# Altium integrated library Altium_IC.IntLib: 58 symbols (part 1 of 2)
Pins are listed as number, name and electrical type; pins without a type are passive.

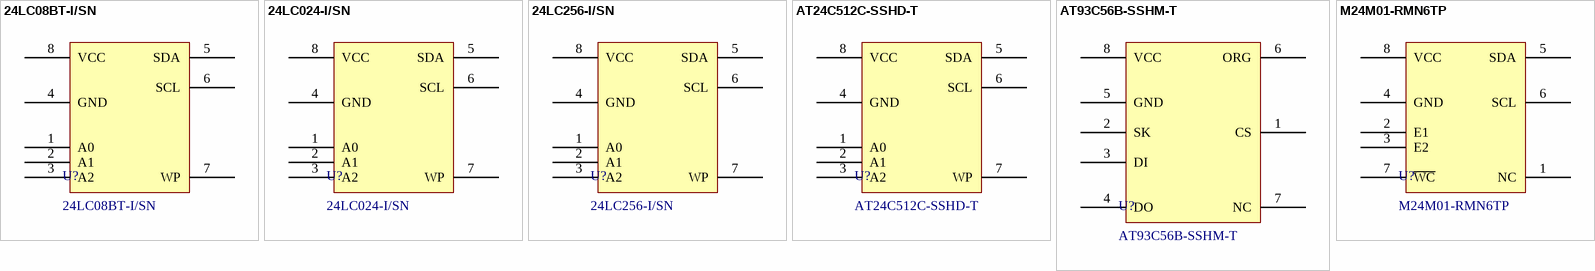
[diagram p0: symbols 24LC08BT-I/SN to M24M01-RMN6TP]

## 24LC08BT-I/SN
designator U?
8 Kbit Electrically Erasable PROM; Manufacturer: Microchip; Interface Type: 2-Wire, I2C; Maximum Clock Frequency: 400 kHz; Memory Size: 8 kbit; Supply Voltage - Max: 5.5 V; Supply Voltage - Min: 2.5 V; Supplier 1 URL: https://www.mouser.vn/ProductDetail/Microchip-Technology/24LC08BT-I-SN?qs=XNV0BZVlaZHdLDEb4lQBIw%3D%3D; Supplier 2 URL: https://www.digikey.com/en/products/detail/microchip-technology/24lc08bt-i-sn/318673; Supplier 3 URL: https://www.thegioiic.com/24lc08b-i-sn-ic-eeprom-8kbit-8-soic; Value: 24LC08BT-I/SN; Manufacturer Part Number: 24LC08BT-I/SN; Supplier 1: Mouser; Supplier 1 Part Number: 579-24LC08BT-I/SN; Supplier 2: Digi-Key; Supplier 2 Part Number: 24LC08BT-I/SNTR-ND; Supplier 3: thegioiic; Supplier 3 Part Number: N/A; Mount: SMD/SMT; Operating Temperature Max: + 85 C; Operating Temperature Min: - 40 C; Package / Case: SOIC-8; Packaging: Tape and Reel; ComponentLink1Description: Datasheet; ComponentLink1URL: https://www.mouser.vn/datasheet/2/268/24AA08_24LC08B_24FC08_8K_I2C_Serial_EEPROM_2000171-2577012.pdf; LCSC Part #: N/A
footprint 24LCxxx-I/SN (SOIC, 8-Leads, Body 4.90x3.90mm, Pitch 1.27mm, IPC Medium Density)
pins: 1 A0, 2 A1, 3 A2, 4 GND, 5 SDA, 6 SCL, 7 WP, 8 VCC

## 24LC024-I/SN
designator U?
2 Kbit Electrically Erasable PROM; Manufacturer: Microchip; Interface Type: 2-Wire, I2C; Maximum Clock Frequency: 400 kHz; Memory Size: 2 kbit; Supply Voltage - Max: 5.5 V; Supply Voltage - Min: 2.5 V; Supplier 1 URL: https://www.mouser.vn/ProductDetail/Microchip-Technology/24LC024-I-SN?qs=qEm8%2FJMJY4oS3QxbKWHseA%3D%3D; Supplier 2 URL: https://www.digikey.com/en/products/detail/microchip-technology/24lc024-i-sn/318656; Supplier 3 URL: https://www.thegioiic.com/24lc024-i-sn-ic-eeprom-2kbit-8-soic; Value: 24LC024-I/SN; Manufacturer Part Number: 24LC024-I/SN; Supplier 1: Mouser; Supplier 1 Part Number: 579-24LC024-I/SN; Supplier 2: Digi-Key; Supplier 2 Part Number: 24LC024-I/SN-ND; Supplier 3: thegioiic; Supplier 3 Part Number: N/A; Mount: SMD/SMT; Operating Temperature Max: + 85 C; Operating Temperature Min: - 40 C; Package / Case: SOIC-8; Packaging: Tape and Reel; ComponentLink1Description: Datasheet; ComponentLink1URL: https://www.mouser.vn/datasheet/2/268/24AA024_24LC024_24AA025_24LC025_2_Kbit_I2C_Serial_-3005761.pdf; LCSC Part #: N/A
footprint 24LCxxx-I/SN (SOIC, 8-Leads, Body 4.90x3.90mm, Pitch 1.27mm, IPC Medium Density)
pins: 1 A0, 2 A1, 3 A2, 4 GND, 5 SDA, 6 SCL, 7 WP, 8 VCC

## 24LC256-I/SN
designator U?
256 Kbit Electrically Erasable PROM; Manufacturer: Microchip; Interface Type: 2-Wire, I2C; Maximum Clock Frequency: 400 kHz; Supply Voltage - Max: 5.5 V; Supply Voltage - Min: 2.5 V; Memory Size: 256 kbit; Supplier 1 URL: https://www.mouser.vn/ProductDetail/Microchip-Technology/24LC256-I-SN?qs=XNV0BZVlaZFRtjzs8l%252BLRw%3D%3D; Supplier 2 URL: https://www.digikey.com/en/products/detail/microchip-technology/24lc256-i-sn/440169; Supplier 3 URL: https://www.thegioiic.com/24lc256-i-sn-ic-eeprom-256kbit-8-soic; Value: 24LC256-I/SN; Manufacturer Part Number: 24LC256-I/SN; Supplier 1: Mouser; Supplier 1 Part Number: 579-24LC256-I/SN; Supplier 2: Digi-Key; Supplier 2 Part Number: 24LC256-I/SN-ND; Supplier 3: thegioiic; Supplier 3 Part Number: N/A; Mount: SMD/SMT; Operating Temperature Max: + 85 C; Operating Temperature Min: - 40 C; Package / Case: SOIC-8; Packaging: Tape and Reel; ComponentLink1Description: Datasheet; ComponentLink1URL: https://www.mouser.vn/datasheet/2/268/24AA256_24LC256_24FC256_256K_I2C_Serial_EEPROM_DS2-3005041.pdf; LCSC Part #: N/A
footprint 24LCxxx-I/SN (SOIC, 8-Leads, Body 4.90x3.90mm, Pitch 1.27mm, IPC Medium Density)
pins: 1 A0, 2 A1, 3 A2, 4 GND, 5 SDA, 6 SCL, 7 WP, 8 VCC

## AT24C512C-SSHD-T
designator U?
EEPROM SERIAL EEPROM 512K (64K X 8) 2WIRE 2.5V; Manufacturer: Microchip; Interface Type: 2-Wire, I2C; Maximum Clock Frequency: 1 MHz; Memory Size: 512 kbit; Supply Voltage - Max: 5.5 V; Supplier 1 URL: https://www.mouser.vn/ProductDetail/Microchip-Technology/AT24C512C-SSHD-T?qs=Oaf4mloV4cM7Q6xetGfOtg%3D%3D; Supplier 2 URL: https://www.digikey.com/en/products/detail/microchip-technology/at24c512c-sshd-t/3046245; Supplier 3 URL: https://www.thegioiic.com/at24c512c-sshd-t-ic-eeprom-512kbit-8-soic; Value: AT24C512C-SSHD-T; Manufacturer Part Number: AT24C512C-SSHD-T; Supplier 1: Mouser; Supplier 1 Part Number: 556-AT24C512C-SSHD-T; Supplier 2: Digi-Key; Supplier 2 Part Number: AT24C512C-SSHD-TTR-ND; Supplier 3: thegioiic; Supplier 3 Part Number: AT24C512C-SSHD-T; Mount: SMD/SMT; Operating Temperature Max: + 85 C; Operating Temperature Min: - 40 C; Package / Case: SOIC-8; Packaging: Tape and Reel; Supply Voltage - Min: 2.5 V; ComponentLink1Description: Datasheet; ComponentLink1URL: https://www.mouser.vn/datasheet/2/268/AT24C512C_I_c2_b2C_Compatible__Two_Wire__Serial_EE-2306430.pdf; LCSC Part #: C12371
footprint M24M01-RMN6TP (SOIC, 8-Leads, Body 4.90x3.90mm, Pitch 1.27mm, IPC Medium Density)
pins: 1 A0, 2 A1, 3 A2, 4 GND, 5 SDA, 6 SCL, 7 WP, 8 VCC

## AT93C56B-SSHM-T
designator U?
EEPROM 2K (256x8/128x16) 3-WIRE, NiPdAu, 1.7V; Manufacturer: Microchip; Interface Type: 3-Wire, Microwire; Maximum Clock Frequency: 2 MHz; Memory Size: 2 kbit; Supply Voltage - Max: 5.5 V; Supplier 1 URL: https://www.mouser.com/ProductDetail/Microchip-Technology/AT93C56B-SSHM-T?qs=SxVMCiT8IVF4cB2r9UHj%252Bg%3D%3D; Supplier 2 URL: N/A; Supplier 3 URL: https://www.thegioiic.com/at93c56-10si-ic-eeprom-2kbit-8-soic; Value: AT93C56B-SSHM-T; Manufacturer Part Number: AT93C56B-SSHM-T; Supplier 1: Mouser; Supplier 1 Part Number: 556-AT93C56B-SSHM-T; Supplier 2: Digi-Key; Supplier 2 Part Number: N/A; Supplier 3: thegioiic; Supplier 3 Part Number: AT93C56-10SI; Mount: SMD/SMT; Operating Temperature Max: + 85 C; Operating Temperature Min: - 40 C; Package / Case: SOIC-8 Narrow; Packaging: Tape and Reel; Supply Voltage - Min: 1.7 V; ComponentLink1Description: Datasheet; ComponentLink1URL: https://www.mouser.com/datasheet/2/268/Atmel_8735_SEEPROM_AT93C56B_66B_Datasheet-1368838.pdf; LCSC Part #: C111441
footprint AT93C56B (SOIC, 8-Leads, Body 4.93x3.90mm, Pitch 1.27mm, IPC Medium Density)
pins: 1 CS, 2 SK, 3 DI, 4 DO, 5 GND, 6 ORG, 7 NC, 8 VCC

## M24M01-RMN6TP
designator U?
EEPROM 1 Mbit Serial; Manufacturer: STMicroelectronics; Interface Type: 2-Wire, I2C; Maximum Clock Frequency: 1 MHz; Memory Size: 1 Mbit; Supply Voltage - Max: 5.5 V; Supply Voltage - Min: 1.8 V; Supplier 1 URL: https://www.mouser.vn/ProductDetail/STMicroelectronics/M24M01-RMN6TP?qs=Djavi1aLnwqgPFAYAO8%2FWw%3D%3D; Supplier 2 URL: https://www.digikey.com/en/products/detail/stmicroelectronics/M24M01-RMN6TP/1827919?s=N4IgTCBcDaILJgCxwAwEYC0AlOA5AbACoAKIAugL5A; Supplier 3 URL: N/A; Value: M24M01-RMN6TP; Manufacturer Part Number: M24M01-RMN6TP; Supplier 1: Mouser; Supplier 1 Part Number: 511-M24M01-RMN6TP; Supplier 2: Digi-Key; Supplier 2 Part Number: 497-6351-2-ND; Supplier 3: thegioiic; Supplier 3 Part Number: N/A; Mount: SMD/SMT; Operating Temperature Max: + 85 C; Operating Temperature Min: - 40 C; Package / Case: SOIC-8; Packaging: Tape and Reel; ComponentLink1Description: Datasheet; ComponentLink1URL: https://www.mouser.vn/datasheet/2/389/m24m01_r-1849830.pdf; LCSC Part #: C79990
footprint M24M01-RMN6TP (SOIC, 8-Leads, Body 4.90x3.90mm, Pitch 1.27mm, IPC Medium Density)
pins: 1 NC, 2 E1, 3 E2, 4 GND, 5 SDA, 6 SCL, 7 ~{WC}, 8 VCC


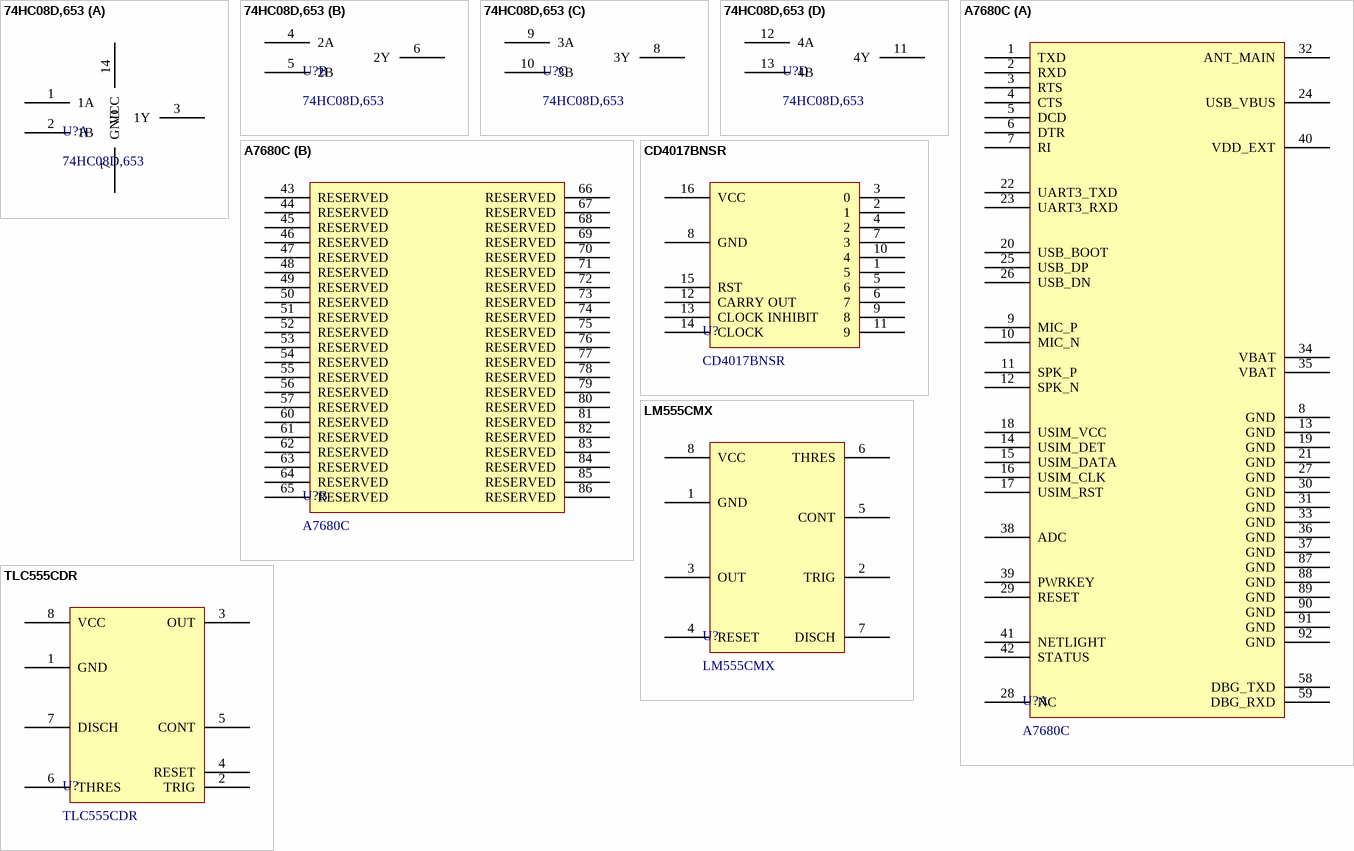
[diagram p1: symbols 74HC08D,653 to TLC555CDR]

## 74HC08D,653
designator U?
Logic Gates 74HC08D/SOT108/SO14; Manufacturer: Nexperia; Pad count: 14; Supply Voltage - Max: 2 V; Supply Voltage - Min: 6 V; Logic Function: AND; Number of Gates: 4 Gate; Number of Input Lines: 8 Input; Number of Output Lines: 4 Output; Propagation Delay Time: 7 ns; Active: Active; ComponentLink1Description: Datasheet; ComponentLink1URL: https://www.mouser.com/datasheet/2/916/74HC_HCT08-2937369.pdf; LCSC Part #: N/A; Manufacturer Part Number: 74HC08D,653; Mount: SMD/SMT; Operating Temperature Max: + 125 C; Operating Temperature Min: - 40 C; Package / Case: SOIC-14; Packaging: Tape and Reel; Supplier 1: Mouser; Supplier 1 Part Number: 771-74HC08D-T; Supplier 1 URL: https://www.mouser.com/ProductDetail/Nexperia/74HC08D653?qs=P62ublwmbi%2FQCxm29EB%2FyA%3D%3D; Supplier 2: Digi-Key; Supplier 2 Part Number: N/A; Supplier 2 URL: N/A; Supplier 3: thegioiic; Supplier 3 Part Number: 74HC08D,652; Supplier 3 URL: https://www.thegioiic.com/74hc08d-652-ic-quad-2-input-and-logic-gate-14-soic; Value: 74HC08D,653
footprint 74HC08D,653 (SOIC, 14-Leads, Body 8.65x3.90mm, Pitch 1.27mm, IPC Medium Density)
part A pins: 1 1A, 2 1B, 3 1Y, 7 GND, 14 VCC
part B pins: 4 2A, 5 2B, 6 2Y
part C pins: 8 3Y, 9 3A, 10 3B
part D pins: 11 4Y, 12 4A, 13 4B

## A7680C
designator U?
LCC-LAG-92_L17.6-W15.7 2G/3G/4G/5G Modules ROHS; Manufacturer: SIMCom Wireless Solutions; Manufacturer Part Number: A7680C-LANS; Pad count: 92; Supply Voltage - Max: 3.4 V; Supply Voltage - Min: 4.2 V; Transmit power: 23dBm +/- 2.7dB; Short Messeage Service: MO, MT, CB, TEXT, PDU; Antenna interface: LTE Antenna Interface; Active: Active; ComponentLink1Description: Datasheet; ComponentLink1URL: https://cdn.tdlogy.com/public/Datasheet/4G-5G/A7680C_HardwareReferenceDesign.pdf; LCSC Part #: C5354934; Mount: SMD/SMT; Operating Temperature Max: + 80 C; Operating Temperature Min: - 30 C; Package / Case: SOIC-16; Packaging: Tape and Reel; Supplier 1: Mouser; Supplier 1 Part Number: N/A; Supplier 1 URL: N/A; Supplier 2: Digi-Key; Supplier 2 Part Number: N/A; Supplier 2 URL: N/A; Supplier 3: thegioiic; Supplier 3 Part Number: N/A; Supplier 3 URL: N/A; Value: A7680C; Downlink: 10Mbps; Uplink: 5Mbps
footprint A7860C (Footprint not found)
part A pins: 1 TXD, 2 RXD, 3 RTS, 4 CTS, 5 DCD, 6 DTR, 7 RI, 8 GND, 9 MIC_P, 10 MIC_N, 11 SPK_P, 12 SPK_N, 13 GND, 14 USIM_DET, 15 USIM_DATA, 16 USIM_CLK, 17 USIM_RST, 18 USIM_VCC, 19 GND, 20 USB_BOOT, 21 GND, 22 UART3_TXD, 23 UART3_RXD, 24 USB_VBUS, 25 USB_DP, 26 USB_DN, 27 GND, 28 NC, 29 RESET, 30 GND, 31 GND, 32 ANT_MAIN, 33 GND, 34 VBAT, 35 VBAT, 36 GND, 37 GND, 38 ADC, 39 PWRKEY, 40 VDD_EXT, 41 NETLIGHT, 42 STATUS, 58 DBG_TXD, 59 DBG_RXD, 87 GND, 88 GND, 89 GND, 90 GND, 91 GND, 92 GND
part B pins: 43 RESERVED, 44 RESERVED, 45 RESERVED, 46 RESERVED, 47 RESERVED, 48 RESERVED, 49 RESERVED, 50 RESERVED, 51 RESERVED, 52 RESERVED, 53 RESERVED, 54 RESERVED, 55 RESERVED, 56 RESERVED, 57 RESERVED, 60 RESERVED, 61 RESERVED, 62 RESERVED, 63 RESERVED, 64 RESERVED, 65 RESERVED, 66 RESERVED, 67 RESERVED, 68 RESERVED, 69 RESERVED, 70 RESERVED, 71 RESERVED, 72 RESERVED, 73 RESERVED, 74 RESERVED, 75 RESERVED, 76 RESERVED, 77 RESERVED, 78 RESERVED, 79 RESERVED, 80 RESERVED, 81 RESERVED, 82 RESERVED, 83 RESERVED, 84 RESERVED, 85 RESERVED, 86 RESERVED

## CD4017BNSR
designator U?
Counter ICs CMOS Decade Counter; Manufacturer: Texas Instruments; Pad count: 16; Supply Voltage - Max: 3 V; Supply Voltage - Min: 18 V; Counting Method: Synchronous; Counting Sequence: Up; Number of Bits: 10 bit; Active: Active; ComponentLink1Description: Datasheet; ComponentLink1URL: https://www.ti.com/lit/gpn/lm555; LCSC Part #: N/A; Manufacturer Part Number: CD4017BNSR; Mount: SMD/SMT; Operating Temperature Max: + 125 C; Operating Temperature Min: - 55 C; Package / Case: SOIC-16; Packaging: Tape and Reel; Supplier 1: Mouser; Supplier 1 Part Number: 595-CD4017BNSR; Supplier 1 URL: https://www.mouser.com/ProductDetail/Texas-Instruments/CD4017BNSR?qs=afYny40WCj0TlPXA7Qbixg%3D%3D; Supplier 2: Digi-Key; Supplier 2 Part Number: N/A; Supplier 2 URL: N/A; Supplier 3: thegioiic; Supplier 3 Part Number: CD4017BM; Supplier 3 URL: https://www.thegioiic.com/cd4017bm-ic-decade-counter-5-5mhz-16-soic; Value: CD4017BNSR; Counter Type: Decade
footprint CD4017BNSR (SOIC, 16-Leads, Body 9.90x3.90mm, Pitch 1.27mm, IPC Medium Density)
pins: 1 5, 2 1, 3 0, 4 2, 5 6, 6 7, 7 3, 8 GND, 9 8, 10 4, 11 9, 12 CARRY OUT, 13 CLOCK INHIBIT, 14 CLOCK, 15 RST, 16 VCC

## LM555CMX
designator U?
Timers & Support Products TIMER; Manufacturer: Texas Instruments; Manufacturer Part Number: LM555CMX/NOPB; Pad count: 8; Supply Voltage - Max: 4.5 V; Supply Voltage - Min: 16 V; Number of Internal Timers: 1; Power Dissipation: 1.18 W; Active: Active; ComponentLink1Description: Datasheet; ComponentLink1URL: https://www.ti.com/lit/gpn/lm555; LCSC Part #: N/A; Mount: SMD/SMT; Operating Temperature Max: + 85 C; Operating Temperature Min: - 40 C; Package / Case: SOIC-8; Packaging: Tape and Reel; Supplier 1: Mouser; Supplier 1 Part Number: 926-LM555CMX/NOPB; Supplier 1 URL: https://www.mouser.com/ProductDetail/Texas-Instruments/LM555CMX-NOPB?qs=QbsRYf82W3GHnQuoL%2FmIoA%3D%3D; Supplier 2: Digi-Key; Supplier 2 Part Number: N/A; Supplier 2 URL: N/A; Supplier 3: thegioiic; Supplier 3 Part Number: NE555D; Supplier 3 URL: https://www.thegioiic.com/ne555d-ic-timer-circuit-100khz-8-soic; Value: LM555CMX
footprint LM555CMX (Footprint not found)
pins: 1 GND, 2 TRIG, 3 OUT, 4 RESET, 5 CONT, 6 THRES, 7 DISCH, 8 VCC

## TLC555CDR
designator U?
Timers & Support Products TIMER; Manufacturer: Texas Instruments; Pad count: 8; Supply Voltage - Max: 4.5 V; Supply Voltage - Min: 16 V; Number of Internal Timers: 1; Power Dissipation: 725 mW; Active: Active; ComponentLink1Description: Datasheet; ComponentLink1URL: https://lcsc.com/datasheet/lcsc_datasheet_2410121754_TI-TLC555CDR_C6986.pdf; LCSC Part #: C6986; Manufacturer Part Number: TLC555CDR; Mount: SMD/SMT; Operating Temperature Max: + 85 C; Operating Temperature Min: - 40 C; Package / Case: SOIC-8; Packaging: Tape and Reel; Supplier 1: Mouser; Supplier 1 Part Number: 595-TLC555CDR; Supplier 1 URL: https://www.mouser.vn/ProductDetail/Texas-Instruments/TLC555CDR?qs=gb35HGp1gQImgWgRW%252BGYaw%3D%3D; Supplier 2: Digi-Key; Supplier 2 Part Number: N/A; Supplier 2 URL: N/A; Supplier 3: thegioiic; Supplier 3 Part Number: N/A; Supplier 3 URL: N/A; Value: TLC555CDR
footprint LM555CMX (Footprint not found)
pins: 1 GND, 2 TRIG, 3 OUT, 4 RESET, 5 CONT, 6 THRES, 7 DISCH, 8 VCC


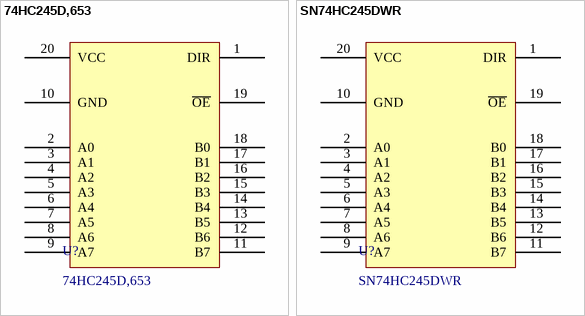
[diagram p2: symbols 74HC245D,653 to SN74HC245DWR]

## 74HC245D,653
designator U?
Bus Transceivers 74HC245D/SOT163/SO20; Manufacturer: Nexperia; Active Read Current - Max: Active; Input Level: CMOS; Output Type: 3-State; Polarity: Non-Inverting; Supply Voltage - Max: 6 V; Supply Voltage - Min: 2 V; Output Level: CMOS; Supplier 1 URL: https://www.mouser.com/ProductDetail/Nexperia/74HC245D653?qs=P62ublwmbi8JbvNhK4vCnA%3D%3D; Supplier 2 URL: N/A; Supplier 3 URL: https://www.thegioiic.com/74hc245d-653-ic-bus-transceiver-non-inverting-8-bit-3-state-20-soic; Value: 74HC245D,653; Supplier 1: Mouser; Supplier 1 Part Number: 771-74HC245D-T; Supplier 2: Digi-Key; Supplier 2 Part Number: N/A; Supplier 3: thegioiic; Supplier 3 Part Number: 74HC245D,653; Manufacturer Part Number: 74HC245D,653; Mount: SMD/SMT; Operating Temperature Max: + 85 C; Operating Temperature Min: - 40 C; Package / Case: SOIC-20; Packaging: Tape and Reel; ComponentLink1Description: Datasheet; ComponentLink1URL: https://www.mouser.com/datasheet/2/916/74HC_HCT245-2937284.pdf; LCSC Part #: C5625
footprint 74HC245D,653 (SOIC, 20-Leads, Body 12.80x7.50mm, Pitch 1.27mm, IPC Medium Density)
pins: 1 DIR, 2 A0, 3 A1, 4 A2, 5 A3, 6 A4, 7 A5, 8 A6, 9 A7, 10 GND, 11 B7, 12 B6, 13 B5, 14 B4, 15 B3, 16 B2, 17 B1, 18 B0, 19 ~{OE}, 20 VCC

## SN74HC245DWR
designator U?
Bus Transceivers Tri-State Octal Bus; Manufacturer: Texas Instruments; Active Read Current - Max: Active; Input Level: CMOS; Output Type: 3-State; Polarity: Non-Inverting; Supply Voltage - Max: 6 V; Supply Voltage - Min: 2 V; Output Level: CMOS; Supplier 1 URL: https://www.mouser.vn/ProductDetail/Texas-Instruments/SN74HC245DWR?qs=dQtLEVC3WoZJYK%2FIz4p0jw%3D%3D; Supplier 2 URL: N/A; Supplier 3 URL: N/A; Value: SN74HC245DWR; Supplier 1: Mouser; Supplier 1 Part Number: 595-SN74HC245DWR; Supplier 2: Digi-Key; Supplier 2 Part Number: N/A; Supplier 3: thegioiic; Supplier 3 Part Number: N/A; Manufacturer Part Number: SN74HC245DWR; Mount: SMD/SMT; Operating Temperature Max: + 85 C; Operating Temperature Min: - 40 C; Package / Case: SOIC-20; Packaging: Tape and Reel; ComponentLink1Description: Datasheet; ComponentLink1URL: https://www.ti.com/general/docs/suppproductinfo.tsp?distId=26&gotoUrl=https://www.ti.com/lit/gpn/sn74hc245; LCSC Part #: C10093
footprint 74HC245D,653 (SOIC, 20-Leads, Body 12.80x7.50mm, Pitch 1.27mm, IPC Medium Density)
pins: 1 DIR, 2 A0, 3 A1, 4 A2, 5 A3, 6 A4, 7 A5, 8 A6, 9 A7, 10 GND, 11 B7, 12 B6, 13 B5, 14 B4, 15 B3, 16 B2, 17 B1, 18 B0, 19 ~{OE}, 20 VCC


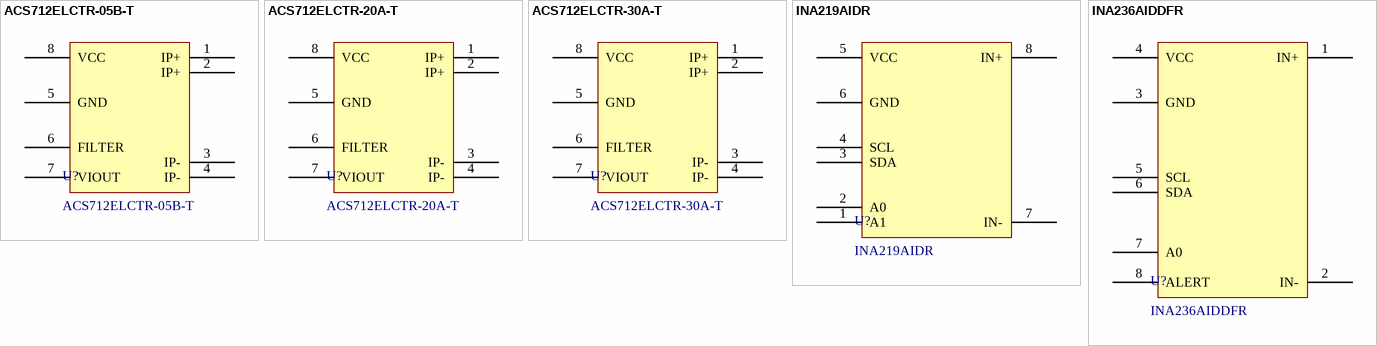
[diagram p3: symbols ACS712ELCTR-05B-T to INA236AIDDFR]

## ACS712ELCTR-05B-T
designator U?
Board Mount Current Sensors For New Designs Use ACS724/5; Manufacturer: Allegro MicroSystems; Supply Voltage - Max: 5.5 V; Supply Voltage - Min: 4.5 V; Current Rating: 10 mA; Sensor Type: Current Sense; ComponentLink1Description: Datasheet; ComponentLink1URL: https://www.mouser.com/datasheet/2/1115/ACS712_Datasheet-3178682.pdf; Manufacturer Part Number: ACS712ELCTR-05B-T; Mount: SMD/SMT; Supplier 1: Mouser; Supplier 1 Part Number: 250-712ELCTR05BT; Supplier 1 URL: https://www.mouser.com/ProductDetail/Allegro-MicroSystems/ACS712ELCTR-05B-T?qs=pUKx8fyJudDs65Rkshv5ug%3D%3D; Supplier 2: Digi-Key; Supplier 2 Part Number: N/A; Supplier 2 URL: N/A; Supplier 3: thegioiic; Supplier 3 Part Number: N/A; Supplier 3 URL: N/A; Value: ACS712ELCTR-05B-T; Accuracy: N/A; Type: Linear Hall; Operating Temperature Max: + 85 C; Operating Temperature Min: - 40 C; Package / Case: SOIC-8; Packaging: Tape and Reel; LCSC Part #: C44471; Sensing Method: N/A
footprint ACS712
pins: 1 IP+, 2 IP+, 3 IP-, 4 IP-, 5 GND, 6 FILTER, 7 VIOUT, 8 VCC

## ACS712ELCTR-20A-T
designator U?
Board Mount Current Sensors For New Designs Use ACS724/5; Manufacturer: Allegro MicroSystems; Supply Voltage - Max: 5.5 V; Supply Voltage - Min: 4.5 V; Current Rating: 10 mA; Sensor Type: Current Sense; ComponentLink1Description: Datasheet; ComponentLink1URL: https://www.mouser.com/datasheet/2/1115/ACS712_Datasheet-3178682.pdf; Manufacturer Part Number: ACS712ELCTR-20A-T; Mount: SMD/SMT; Supplier 1: Mouser; Supplier 1 Part Number: 250-712ELCTR20AT; Supplier 1 URL: https://www.mouser.com/ProductDetail/Allegro-MicroSystems/ACS712ELCTR-20A-T?qs=pUKx8fyJudBUdhIPMFjOBQ%3D%3D; Supplier 2: Digi-Key; Supplier 2 Part Number: N/A; Supplier 2 URL: N/A; Supplier 3: thegioiic; Supplier 3 Part Number: N/A; Supplier 3 URL: N/A; Value: ACS712ELCTR-20A-T; Accuracy: N/A; Type: Linear Hall; Operating Temperature Max: + 85 C; Operating Temperature Min: - 40 C; Package / Case: SOIC-8; Packaging: Tape and Reel; LCSC Part #: C10681; Sensing Method: N/A
footprint ACS712
pins: 1 IP+, 2 IP+, 3 IP-, 4 IP-, 5 GND, 6 FILTER, 7 VIOUT, 8 VCC

## ACS712ELCTR-30A-T
designator U?
Board Mount Current Sensors For New Designs Use ACS724/5; Manufacturer: Allegro MicroSystems; Supply Voltage - Max: 5.5 V; Supply Voltage - Min: 4.5 V; Current Rating: 10 mA; Sensor Type: Current Sense; ComponentLink1Description: Datasheet; ComponentLink1URL: https://www.mouser.com/datasheet/2/1115/ACS712_Datasheet-3178682.pdf; Manufacturer Part Number: ACS712ELCTR-30A-T; Mount: SMD/SMT; Supplier 1: Mouser; Supplier 1 Part Number: 250-712ELCTR30AT; Supplier 1 URL: https://www.mouser.com/ProductDetail/Allegro-MicroSystems/ACS712ELCTR-30A-T?qs=pUKx8fyJudCUnx4DKHyK4g%3D%3D; Supplier 2: Digi-Key; Supplier 2 Part Number: N/A; Supplier 2 URL: N/A; Supplier 3: thegioiic; Supplier 3 Part Number: N/A; Supplier 3 URL: N/A; Value: ACS712ELCTR-30A-T; Accuracy: N/A; Type: Linear Hall; Operating Temperature Max: + 85 C; Operating Temperature Min: - 40 C; Package / Case: SOIC-8; Packaging: Tape and Reel; LCSC Part #: C9932; Sensing Method: N/A
footprint ACS712
pins: 1 IP+, 2 IP+, 3 IP-, 4 IP-, 5 GND, 6 FILTER, 7 VIOUT, 8 VCC

## INA219AIDR
designator U?
Current & Power Monitors & Regulators Zero-Drift,Bi-Dir Crnt/Pwr Monitor; Manufacturer: Texas Instruments; Supply Voltage - Max: 5.5 V; Supply Voltage - Min: 3 V; Accuracy: 0.5 %; Current Rating: 1 mA; Sensing Method: High Side; ComponentLink1Description: Datasheet; ComponentLink1URL: https://www.ti.com/lit/gpn/ina219; Manufacturer Part Number: INA219AIDR; Mount: SMD/SMT; Supplier 1: Mouser; Supplier 1 Part Number: 595-INA219AIDR; Supplier 1 URL: https://www.mouser.com/ProductDetail/Texas-Instruments/INA219AIDR?qs=XGzIaZb%2FFYIE5YcOHTnKDA%3D%3D; Supplier 2: Digi-Key; Supplier 2 Part Number: N/A; Supplier 2 URL: N/A; Supplier 3: thegioiic; Supplier 3 Part Number: N/A; Supplier 3 URL: N/A; Value: INA219AIDR; Operating Temperature Max: + 85 C; Operating Temperature Min: - 40 C; Package / Case: SOIC-8; Packaging: Tape and Reel; LCSC Part #: C138706; Sensor Type: N/A
footprint INA219-SOIC
pins: 1 A1, 2 A0, 3 SDA, 4 SCL, 5 VCC, 6 GND, 7 IN-, 8 IN+

## INA236AIDDFR
designator U?
Current & Power Monitors & Regulators 48-V, 16-bit ultraprecise I²C output digital power monitor with alert in WCSP 8-SOT-23-THIN -40 to 125; Manufacturer: Texas Instruments; Supply Voltage - Max: 5.5 V; Supply Voltage - Min: 1.7 V; Accuracy: 0.5 %; Current Rating: 1 mA; Sensing Method: High Side/Low Side; ComponentLink1Description: Datasheet; ComponentLink1URL: https://www.ti.com/lit/gpn/ina236; Manufacturer Part Number: INA236AIDDFR; Mount: SMD/SMT; Supplier 1: Mouser; Supplier 1 Part Number: 595-INA236AIDDFR; Supplier 1 URL: https://www.mouser.com/ProductDetail/Texas-Instruments/INA236AIDDFR?qs=amGC7iS6iy%252BrvgC7WgsvdQ%3D%3D; Supplier 2: Digi-Key; Supplier 2 Part Number: N/A; Supplier 2 URL: N/A; Supplier 3: thegioiic; Supplier 3 Part Number: N/A; Supplier 3 URL: N/A; Value: INA236AIDDFR; Operating Temperature Max: + 85 C; Operating Temperature Min: - 40 C; Package / Case: SOIC-8; Packaging: Tape and Reel; LCSC Part #: C5443912; Sensor Type: N/A
footprint INA236AIDDFR (TSOP, 8-Leads, Body 2.90x1.60mm, Pitch 0.65mm, IPC Medium Density)
pins: 1 IN+, 2 IN-, 3 GND, 4 VCC, 5 SCL, 6 SDA, 7 A0, 8 ALERT


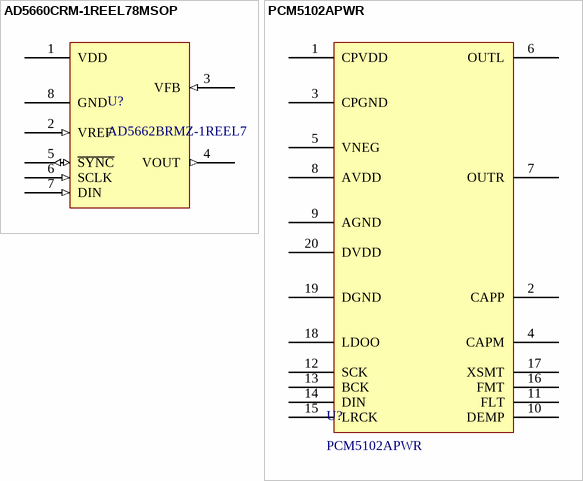
[diagram p4: symbols AD5660CRM-1REEL78MSOP to PCM5102APWR]

## AD5660CRM-1REEL78MSOP
designator U?, comment AD5662BRMZ-1REEL7
IC DAC 16BIT V-OUT 8MSOP,; Manufacturer: Analog Devices; Number of Converters: 1; Power Dissipation: 5 mW; Sampling Rate: 125 kS/s; Supply Voltage - Max: 5.5 V; Supply Voltage - Min: 2.7 V; Resolution: 16 bit; Supplier 1 URL: https://www.mouser.vn/ProductDetail/Analog-Devices/AD5662BRMZ-1REEL7?qs=NmRFExCfTkGSnX5okAm7Ig%3D%3D; Supplier 2 URL: https://www.digikey.com/en/products/detail/analog-devices-inc/ad5662brmz-1reel7/1198991; Supplier 3 URL: N/A; Value: AD5662BRMZ-1REEL7; Supplier 1: Mouser; Supplier 1 Part Number: 584-AD5662BRMZ-1R7; Supplier 2: Digi-Key; Supplier 2 Part Number: AD5662BRMZ-1REEL7TR-ND; Supplier 3: thegioiic; Supplier 3 Part Number: N/A; Manufacturer Part Number: AD5662BRMZ-1REEL7; Mount: SMD/SMT; Operating Temperature Max: + 85 C; Operating Temperature Min: - 40 C; Package / Case: MSOP-8; Packaging: Tape and Reel; ComponentLink1Description: Datasheet; ComponentLink1URL: https://www.analog.com/media/en/technical-documentation/data-sheets/AD5620_5640_5660.pdf; LCSC Part#: N/A; SNR: N/A; Subcategory: N/A
footprint AD5662xx family (TSOP, 8-Leads, Body 3.00x3.00mm, Pitch 0.65mm, IPC Medium Density)
pins: 1 VDD (power), 2 VREF (in), 3 VFB (in), 4 VOUT (out), 5 ~{SYNC} (io), 6 SCLK (in), 7 DIN (in), 8 GND (power)

## PCM5102APWR
designator U?
500uA 2 I2S Audio Decoder 384kHz 1.8V~3.3V 32 TSSOP-20 ADCs/DACs - Special Purpose RoHS; Manufacturer: Texas Instruments; Number of Converters: 2; Resolution: 32 bit; Supply Voltage - Max: 3.46; Supply Voltage - Min: 1.65; SNR: 112 dB; Power Dissipation: N/A; Sampling Rate: 384 kHz; Supplier 1 URL: https://www.mouser.vn/ProductDetail/Texas-Instruments/PCM5102APWR?qs=E2%2FxqS9xjzrfECkwEYoiyg%3D%3D&srsltid=AfmBOoqdLpNJ7s6ymjwF-E4TFPY5WLi8GjiDqAQ_AZcHO7YGvJkdAtEk; Supplier 2 URL: https://www.digikey.com/en/products/detail/texas-instruments/PCM5102APWR/3727211; Supplier 3 URL: N/A; Value: PCM5102APWR; Supplier 1: Mouser; Supplier 1 Part Number: 595-PCM5102APWR; Supplier 2: Digi-Key; Supplier 2 Part Number: 296-36707-2-ND; Supplier 3: thegioiic; Supplier 3 Part Number: N/A; Manufacturer Part Number: PCM5102APWR; Mount: SMD/SMT; Operating Temperature Max: + 85 C; Operating Temperature Min: - 25 C; Package / Case: TSSOP-20; Packaging: Tape and Reel; ComponentLink1Description: Datasheet; ComponentLink1URL: https://www.ti.com/lit/ds/symlink/pcm5100a-q1.pdf?ts=1762483527185&ref_url=https%253A%252F%252Fwww.google.com%252F; LCSC Part#: C107671; Subcategory: Audio ICs
footprint PCM510XXX FAMILY (TSOP, 20-Leads, Body 6.50x4.40mm, Pitch 0.65mm, IPC Medium Density)
pins: 1 CPVDD, 2 CAPP, 3 CPGND, 4 CAPM, 5 VNEG, 6 OUTL, 7 OUTR, 8 AVDD, 9 AGND, 10 DEMP, 11 FLT, 12 SCK, 13 BCK, 14 DIN, 15 LRCK, 16 FMT, 17 XSMT, 18 LDOO, 19 DGND, 20 DVDD


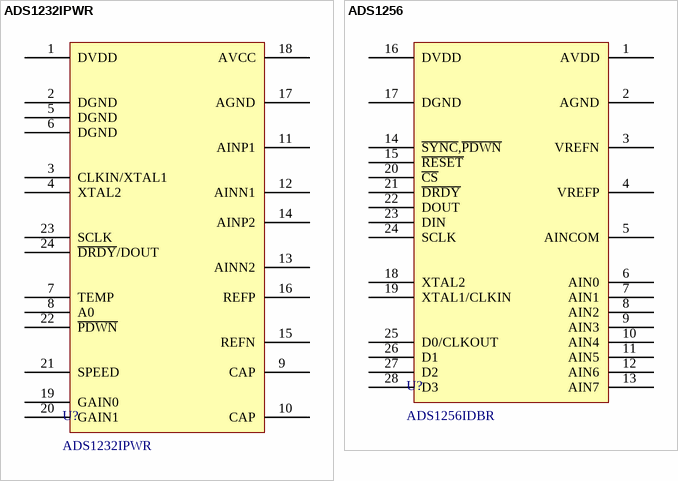
[diagram p5: symbols ADS1232IPWR to ADS1256]

## ADS1232IPWR
designator U?
24 2.7V~5.3V 10Hz SPI TSSOP-24 Analog to Digital Converters (ADC) ROHS; Manufacturer: Texas Instruments; Supply Voltage - Max: 5.3 V; Supply Voltage - Min: 2.7 V; Architecture: Sigma-Delta; Input Type: Differential/Single-Ended; Integral Nonlinearity: 168 LSB; Interface Type: I2C, SPI; Number of Channels: 2 Channel; Number of Converters: 1 converter; Power Consumption: 4.3 mW; Power Dissipation: 13.1 mW; Reference Type: External; Reference Voltage: 5 V; Resolution: 24 bit; Sampling Rate: 10 S/s / 80 S/s; ComponentLink1Description: Datasheet; ComponentLink1URL: https://www.lcsc.com/datasheet/C27919.pdf; LCSC Part #: C27919; Manufacturer Part Number: ADS1232IPWR; Mount: SMD/SMT; Operating Temperature Max: + 105 C; Operating Temperature Min: - 40 C; Package / Case: TSSOP-24; Packaging: Tape and Reel; Supplier 1: Mouser; Supplier 1 Part Number: N/A; Supplier 1 URL: N/A; Supplier 2: Digi-Key; Supplier 2 Part Number: N/A; Supplier 2 URL: N/A; Supplier 3: thegioiic; Supplier 3 Part Number: N/A; Supplier 3 URL: N/A; Value: ADS1232IPWR; Features: 50/60 Hz Rejection, Oscillator, PGA; Moisture Sensitive: Yes
footprint PW(R-PDSO-G24) (TSOP, 24-Leads, Body 7.80x4.40mm, Pitch 0.65mm, IPC Medium Density)
pins: 1 DVDD, 2 DGND, 3 CLKIN/XTAL1, 4 XTAL2, 5 DGND, 6 DGND, 7 TEMP, 8 A0, 9 CAP, 10 CAP, 11 AINP1, 12 AINN1, 13 AINN2, 14 AINP2, 15 REFN, 16 REFP, 17 AGND, 18 AVCC, 19 GAIN0, 20 GAIN1, 21 SPEED, 22 ~{PDWN}, 23 SCLK, 24 ~{DRDY}/DOUT

## ADS1256
designator U?, comment ADS1256IDBR
ADC 24Bit 30kSPS Very Lo -Noise Delta-Sigma A 595-ADS1256IDBT; Manufacturer: Texas Instruments; Architecture: Sigma-Delta; Input Type: Differential/Single-Ended; Integral Nonlinearity: +/- 0.001 % FSR; Interface Type: I2C, SPI; Number of Channels: 4/8 Channel; Number of Converters: 1 converter; Power Consumption: 36 mW; Power Dissipation: 57 mW; Reference Type: External; Reference Voltage: 5 V; Sampling Rate: 30 kS/s; Supply Voltage - Max: 5.3 V; Supply Voltage - Min: 1.8 V; ComponentLink1Description: Datasheet; ComponentLink1URL: https://www.lcsc.com/datasheet/C28186.pdf; Features: 50/60 Hz Rejection, GPIO, PGA; LCSC Part #: C28186; Manufacturer Part Number: ADS1256IDBR; Moisture Sensitive: Yes; Mount: SMD/SMT; Operating Temperature Max: + 85 C; Operating Temperature Min: - 40 C; Package / Case: SSOP-28; Packaging: Tape and Reel; Resolution: 24 bit; Supplier 1: Mouser; Supplier 1 Part Number: 595-ADS1256IDBR; Supplier 1 URL: https://www.mouser.com/ProductDetail/Texas-Instruments/ADS1256IDBR?qs=RaXRGs7zCv5IPPtvogIk9Q%3D%3D; Supplier 2: Digi-Key; Supplier 2 Part Number: N/A; Supplier 2 URL: N/A; Supplier 3: thegioiic; Supplier 3 Part Number: N/A; Supplier 3 URL: N/A; Value: ADS1256IDBR
footprint DB0028A (SOP, 28-Leads, Body 10.20x5.30mm, Pitch 0.65mm, IPC Medium Density)
pins: 1 AVDD, 2 AGND, 3 VREFN, 4 VREFP, 5 AINCOM, 6 AIN0, 7 AIN1, 8 AIN2, 9 AIN3, 10 AIN4, 11 AIN5, 12 AIN6, 13 AIN7, 14 ~{SYNC},~{PDWN}, 15 ~{RESET}, 16 DVDD, 17 DGND, 18 XTAL2, 19 XTAL1/CLKIN, 20 ~{CS}, 21 ~{DRDY}, 22 DOUT, 23 DIN, 24 SCLK, 25 D0/CLKOUT, 26 D1, 27 D2, 28 D3


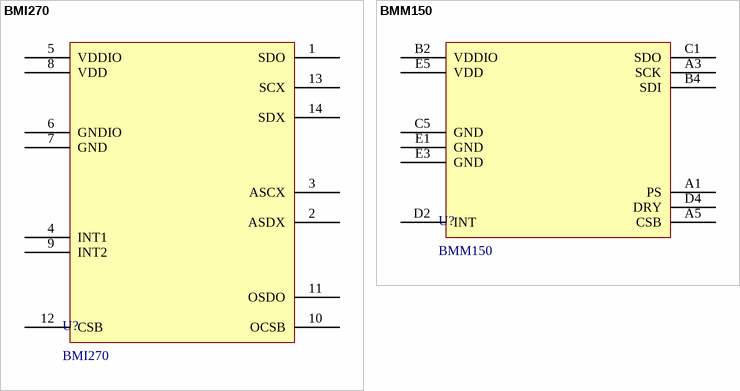
[diagram p6: symbols BMI270 to BMM150]

## BMI270
designator U?
IMUs - Inertial Measurement Units Smart Ultra-Low Power Inertial Measurement Unit (IMU) for Wearable Applications; Manufacturer: Bosch; Pad count: 14; Supply Voltage - Max: 3.6 V; Supply Voltage - Min: 1.2 V; Active: Active; Supplier 1 URL: https://www.mouser.com/ProductDetail/Bosch-Sensortec/BMI270?qs=u16ybLDytRYIj%252BjQEee88A%3D%3D; Supplier 2 URL: https://www.digikey.com/en/products/detail/bosch-sensortec/bmi270/9974486; Supplier 3 URL: N/A; Value: BMI270; Manufacturer Part Number: BMI270; Packaging: Tape and Reel; Supplier 1: Mouser; Supplier 1 Part Number: 262-BMI270; Supplier 2: Digi-Key; Supplier 2 Part Number: 828-1091-2-ND; Supplier 3: thegioiic; Supplier 3 Part Number: N/A; Mount: SMD/SMT; Operating Temperature Max: + 85 C; Operating Temperature Min: - 40 C; Package / Case: LGA-14; ComponentLink1Description: Datasheet; ComponentLink1URL: https://www.mouser.com/datasheet/2/783/bst_bmi270_ds000-2529306.pdf
footprint BMI270 (QFN, 14-Leads, Body 3.00x2.50mm, Pitch 0.50mm, IPC Medium Density)
pins: 1 SDO, 2 ASDX, 3 ASCX, 4 INT1, 5 VDDIO, 6 GNDIO, 7 GND, 8 VDD, 9 INT2, 10 OCSB, 11 OSDO, 12 CSB, 13 SCX, 14 SDX

## BMM150
designator U?
Board Mount Hall Effect / Magnetic Sensors 3-axis MEMS Magnetometer Sensor; Manufacturer: Bosch; Pad count: 12; Active: NRND; Supply Voltage - Max: 3.6 V; Supply Voltage - Min: 1.62 V; Supplier 1 URL: https://www.mouser.com/ProductDetail/Bosch-Sensortec/BMM150?qs=d72FGnIDsgTOmKpCEe6mYw%3D%3D; Supplier 2 URL: https://www.digikey.com/en/products/detail/bosch-sensortec/bmm150/4196671; Supplier 3 URL: N/A; Value: BMM150; Manufacturer Part Number: BMM150; Packaging: Tape and Reel; Supplier 1: Mouser; Supplier 1 Part Number: 262-BMM150; Supplier 2: Digi-Key; Supplier 2 Part Number: 828-1044-2-ND; Supplier 3: thegioiic; Supplier 3 Part Number: N/A; Mount: SMD/SMT; Operating Temperature Max: + 85 C; Operating Temperature Min: - 40 C; Package / Case: WJCSP-12; ComponentLink1Description: Datasheet; ComponentLink1URL: https://www.mouser.com/datasheet/2/783/BST_BMM150_DS001-1509615.pdf
footprint BMM150 (BGA, 12-Leads, Body 1.56x1.56mmx0.40mm, Pitch 0.28mm)
pins: A1 PS, A3 SCK, A5 CSB, B2 VDDIO, B4 SDI, C1 SDO, C5 GND, D2 INT, D4 DRY, E1 GND, E3 GND, E5 VDD


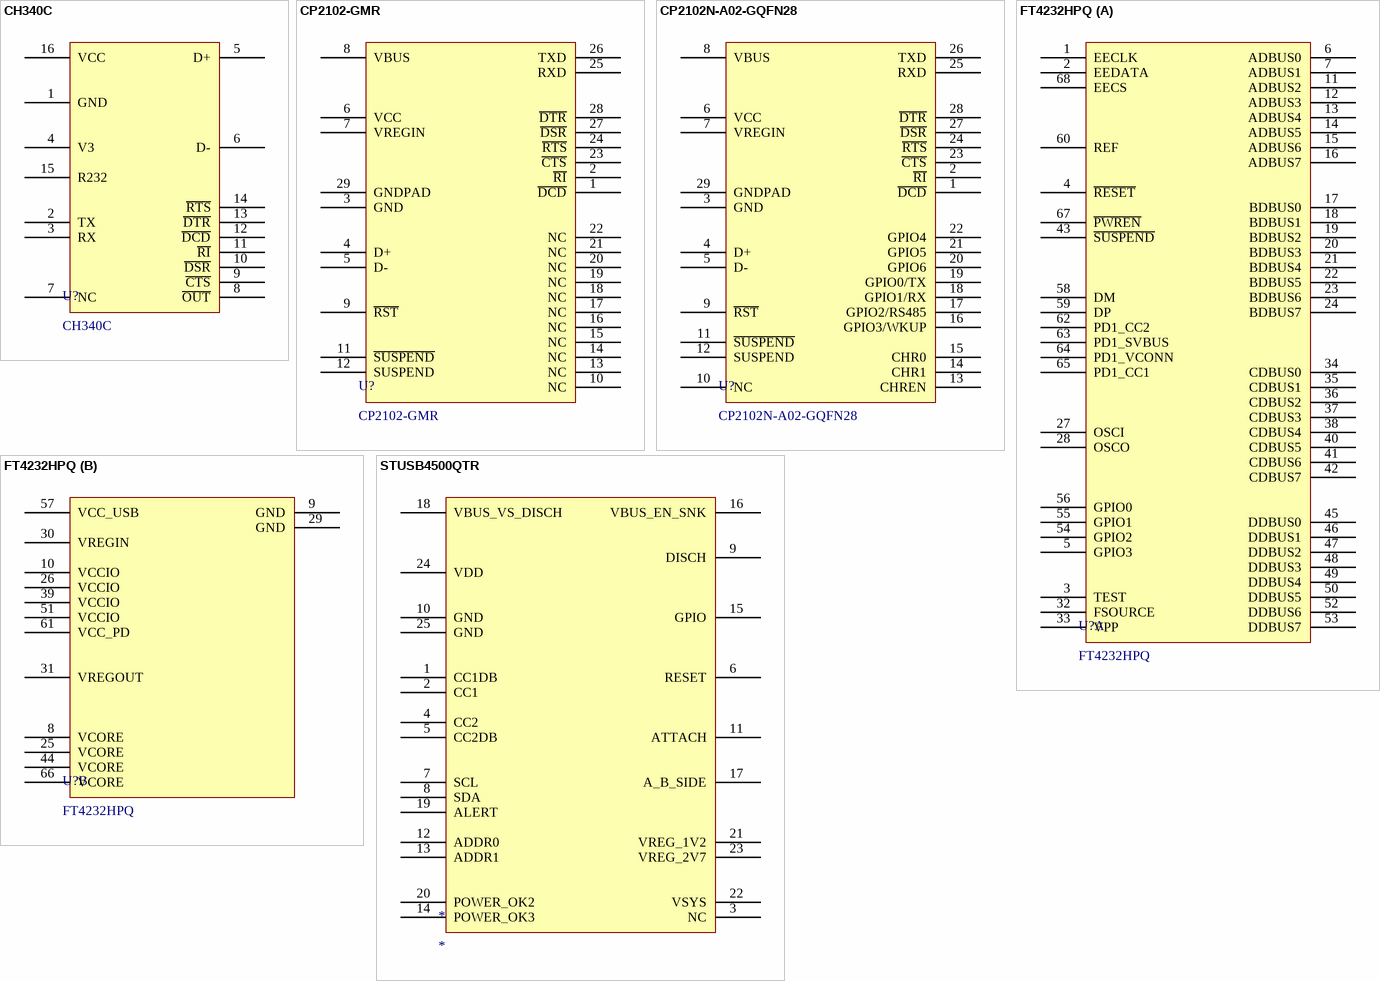
[diagram p7: symbols CH340C to STUSB4500QTR]

## CH340C
designator U?
USB to serial chip CH340; Manufacturer: WCH; Data rate: 2 Mb/s; Numbers of Ports: 1 Port; Speed: Full Speed (FS); Supply Voltage - Max: 3.3V; Supply Voltage - Min: 5V; Pad count: 16; Active: Active; Manufacturer Part Number: CH340C; Mount: SMD/SMT; Operating Temperature Max: + 85 C; Operating Temperature Min: - 40 C; Package / Case: SOP-16; Packaging: Tape and Reel; Standard: USB 2.0; Supplier 1: Mouser; Supplier 1 Part Number: N/A; Supplier 1 URL: N/A; Supplier 2: Digi-Key; Supplier 2 Part Number: N/A; Supplier 2 URL: N/A; Supplier 3: thegioiic; Supplier 3 Part Number: CH340C; Supplier 3 URL: https://www.thegioiic.com/ch340c-ic-usb-transceiver-2mbps-16-sop; Value: CH340C; ComponentLink1Description: Datasheet; ComponentLink1URL: https://www.thegioiic.com/upload/documents/9f224927ccfc4b1ab639cd34eba4ea3a.pdf; LCSC Part #: C84681
footprint CH340
pins: 1 GND, 2 TX, 3 RX, 4 V3, 5 D+, 6 D-, 7 NC, 8 ~{OUT}, 9 ~{CTS}, 10 ~{DSR}, 11 ~{RI}, 12 ~{DCD}, 13 ~{DTR}, 14 ~{RTS}, 15 R232, 16 VCC

## CP2102-GMR
designator U?
USB Interface IC USB to UART Bridge QFN28; Manufacturer: Silicon Laboratories; Active: NRND; Pad count: 28; Data rate: 12 Mb/s; Numbers of Ports: 1 Port; Speed: Full Speed (FS); Supply Voltage - Max: 3V; Supply Voltage - Min: 3.6V; Standard: USB 2.0; Supplier 1 URL: https://www.mouser.com/ProductDetail/Silicon-Labs/CP2102-GMR?qs=cNyzPCcHMUWu%2FiPhR8KQAw%3D%3D; Supplier 2 URL: https://www.digikey.com/en/products/detail/silicon-labs/cp2102-gmr/2051863; Supplier 3 URL: https://www.thegioiic.com/cp2102-ic-usb-controller-12mbps-28-qfn; Value: CP2102-GMR; Manufacturer Part Number: CP2102-GMR; Packaging: Tape and Reel; Supplier 1: Mouser; Supplier 1 Part Number: 634-CP2102-GMR; Supplier 2: Digi-Key; Supplier 2 Part Number: 336-1160-2-ND; Supplier 3: thegioiic; Supplier 3 Part Number: N/A; Mount: SMD/SMT; Operating Temperature Max: + 85 C; Operating Temperature Min: - 40 C; Package / Case: QFN-28; ComponentLink1Description: Datasheet; ComponentLink1URL: https://www.mouser.com/datasheet/2/368/CP2102-9-1397909.pdf; LCSC Part #: C6568
footprint CP2102-GMR (QFN, 28-Leads, Body 5.00x5.00mm, Pitch 0.50mm, Thermal Pad 3.13x3.13mm, IPC Medium Density)
pins: 1 ~{DCD}, 2 ~{RI}, 3 GND, 4 D+, 5 D-, 6 VCC, 7 VREGIN, 8 VBUS, 9 ~{RST}, 10 NC, 11 ~{SUSPEND}, 12 SUSPEND, 13 NC, 14 NC, 15 NC, 16 NC, 17 NC, 18 NC, 19 NC, 20 NC, 21 NC, 22 NC, 23 ~{CTS}, 24 ~{RTS}, 25 RXD, 26 TXD, 27 ~{DSR}, 28 ~{DTR}, 29 GNDPAD

## CP2102N-A02-GQFN28
designator U?
USB Interface IC USBXpress - USB to UART Bridge QFN28; Manufacturer: Silicon Laboratories; Data rate: 3 Mb/s; Numbers of Ports: 1 Port; Pad count: 28; Speed: Full Speed (FS); Supply Voltage - Max: 3V; Supply Voltage - Min: 3.6V; Active: Active; Standard: USB 2.0; Supplier 1 URL: https://www.mouser.com/ProductDetail/Silicon-Labs/CP2102N-A02-GQFN28?qs=sGAEpiMZZMuobhpKLk3hhxBFe7HcKaKttxz9xOIMcEs%3D; Supplier 2 URL: https://www.digikey.com/en/products/detail/silicon-labs/cp2102n-a02-gqfn28/9863477; Supplier 3 URL: N/A; Value: CP2102N-A02-GQFN28; Manufacturer Part Number: CP2102N-A02-GQFN28; Packaging: Tape and Reel; Supplier 1: Mouser; Supplier 1 Part Number: 634-CP2102NA02GQFN28; Supplier 2: Digi-Key; Supplier 2 Part Number: 336-5889-ND; Supplier 3: thegioiic; Supplier 3 Part Number: N/A; Mount: SMD/SMT; Operating Temperature Max: + 85 C; Operating Temperature Min: - 40 C; Package / Case: QFN-28; ComponentLink1Description: Datasheet; ComponentLink1URL: https://www.mouser.com/datasheet/2/368/cp2102n_datasheet-1634912.pdf; LCSC Part #: C964632
footprint CP2102N-A02-GQFN28 (QFN, 28-Leads, Body 5.00x5.00mm, Pitch 0.50mm, Thermal Pad 3.25x3.25mm, IPC Medium Density)
pins: 1 ~{DCD}, 2 ~{RI}, 3 GND, 4 D+, 5 D-, 6 VCC, 7 VREGIN, 8 VBUS, 9 ~{RST}, 10 NC, 11 ~{SUSPEND}, 12 SUSPEND, 13 CHREN, 14 CHR1, 15 CHR0, 16 GPIO3/WKUP, 17 GPIO2/RS485, 18 GPIO1/RX, 19 GPIO0/TX, 20 GPIO6, 21 GPIO5, 22 GPIO4, 23 ~{CTS}, 24 ~{RTS}, 25 RXD, 26 TXD, 27 ~{DSR}, 28 ~{DTR}, 29 GNDPAD

## FT4232HPQ
designator U?
USB Interface IC USB Bridge Type-C 3.0 32-Bit 8kB 48kB; Manufacturer: FTDI; Data rate: 12 Mb/s; Numbers of Ports: 2 Port; Pad count: 68; Speed: High Speed (HS); Supply Voltage - Max: 1.08 V; Supply Voltage - Min: 1.32 V; Active: Active; Standard: USB-C 3.0; Supplier 1 URL: https://www.mouser.com/ProductDetail/FTDI/FT4232HPQ-TRAY?qs=DRkmTr78QATL4FSPfVZC7Q%3D%3D; Supplier 2 URL: https://www.digikey.com/en/products/detail/ftdi-future-technology-devices-international-ltd/ft4232hpq-tray/13981003; Supplier 3 URL: N/A; Value: FT4232HPQ; Manufacturer Part Number: FT4232HPQ; Packaging: Tape and Reel; Supplier 1: Mouser; Supplier 1 Part Number: 895-FT4232HPQ-TRAY; Supplier 2: Digi-Key; Supplier 2 Part Number: 768-FT4232HPQ-TRAY-ND; Supplier 3: thegioiic; Supplier 3 Part Number: N/A; Mount: SMD/SMT; Operating Temperature Max: + 85 C; Operating Temperature Min: - 40 C; Package / Case: QFN-68; ComponentLink1Description: Datasheet; ComponentLink1URL: https://www.mouser.com/datasheet/2/163/DS_FT4233HP-3135614.pdf; LCSC Part #: N/A
footprint FT4232HPQ (QFN, 68-Leads, Body 8.00x8.00mm, Pitch 0.40mm, Thermal Pad 4.30x4.30mm, IPC Medium Density)
part A pins: 1 EECLK, 2 EEDATA, 3 TEST, 4 ~{RESET}, 5 GPIO3, 6 ADBUS0, 7 ADBUS1, 11 ADBUS2, 12 ADBUS3, 13 ADBUS4, 14 ADBUS5, 15 ADBUS6, 16 ADBUS7, 17 BDBUS0, 18 BDBUS1, 19 BDBUS2, 20 BDBUS3, 21 BDBUS4, 22 BDBUS5, 23 BDBUS6, 24 BDBUS7, 27 OSCI, 28 OSCO, 32 FSOURCE, 33 VPP, 34 CDBUS0, 35 CDBUS1, 36 CDBUS2, 37 CDBUS3, 38 CDBUS4, 40 CDBUS5, 41 CDBUS6, 42 CDBUS7, 43 ~{SUSPEND}, 45 DDBUS0, 46 DDBUS1, 47 DDBUS2, 48 DDBUS3, 49 DDBUS4, 50 DDBUS5, 52 DDBUS6, 53 DDBUS7, 54 GPIO2, 55 GPIO1, 56 GPIO0, 58 DM, 59 DP, 60 REF, 62 PD1_CC2, 63 PD1_SVBUS, 64 PD1_VCONN, 65 PD1_CC1, 67 ~{PWREN}, 68 EECS
part B pins: 8 VCORE, 9 GND, 10 VCCIO, 25 VCORE, 26 VCCIO, 29 GND, 30 VREGIN, 31 VREGOUT, 39 VCCIO, 44 VCORE, 51 VCCIO, 57 VCC_USB, 61 VCC_PD, 66 VCORE

## STUSB4500QTR
designator *
pins: 1 CC1DB, 2 CC1, 3 NC, 4 CC2, 5 CC2DB, 6 RESET, 7 SCL, 8 SDA, 9 DISCH, 10 GND, 11 ATTACH, 12 ADDR0, 13 ADDR1, 14 POWER_OK3, 15 GPIO, 16 VBUS_EN_SNK, 17 A_B_SIDE, 18 VBUS_VS_DISCH, 19 ALERT, 20 POWER_OK2, 21 VREG_1V2, 22 VSYS, 23 VREG_2V7, 24 VDD, 25 GND


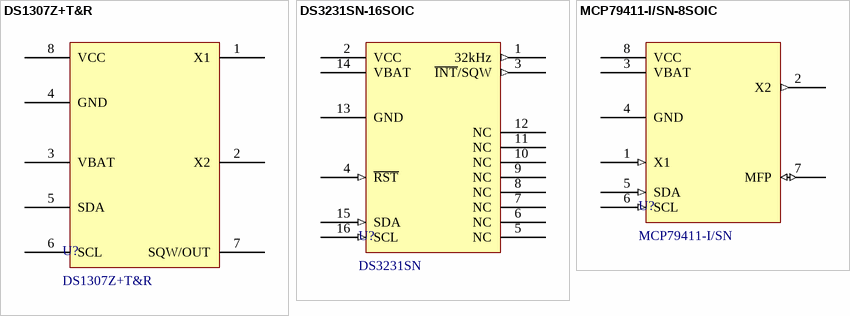
[diagram p8: symbols DS1307Z+T&R to MCP79411-I/SN-8SOIC]

## DS1307Z+T&R
designator U?
Real Time Clock 64 x 8, Serial, I C Real-Time Clock; Manufacturer: Analog Devices Inc.; Operating Supply Current: 1.5 mA; RTC Bus Interface: I2C, Serial; RTC Memory Size: 56 B; Supply Voltage - Max: 5.5 V; Supply Voltage - Min: 4.5 V; Time Format: HH:MM:SS (12 hr, 24 hr); ComponentLink1Description: Datasheet; ComponentLink1URL: https://www.mouser.vn/datasheet/2/609/DS1307-3134587.pdf; LCSC Part #: C9868; Manufacturer Part Number: DS1307Z+T&R; Mount: SMD/SMT; Operating Temperature Max: + 70 C; Operating Temperature Min: 0 C; Package / Case: SOIC-8; Packaging: Tape and Reel; Supplier 1: Mouser; Supplier 1 Part Number: 700-DS1307ZT&R; Supplier 1 URL: https://www.mouser.vn/ProductDetail/Analog-Devices-Maxim-Integrated/DS1307Z%2bTR?qs=0Y9aZN%252BMVCXp4OQc9xwQow%3D%3D; Supplier 2: Digi-Key; Supplier 2 Part Number: N/A; Supplier 2 URL: N/A; Supplier 3: thegioiic; Supplier 3 Part Number: N/A; Supplier 3 URL: N/A; Value: DS1307Z+T&R
footprint DS1307Z+T&R (SOIC, 8-Leads, Body 4.90x3.90mm, Pitch 1.27mm, IPC Medium Density)
pins: 1 X1, 2 X2, 3 VBAT, 4 GND, 5 SDA, 6 SCL, 7 SQW/OUT, 8 VCC

## DS3231SN-16SOIC
designator U?, comment DS3231SN
IC RTC CLK/CALENDAR I2C 16SOIC; Manufacturer: Analog Devices Inc./Maxim Integrated; Operating Supply Current: 110 - 170 (µA); RTC Bus Interface: I2C, Serial; Time Format: HH:MM:SS (12 hr, 24 hr); Supply Voltage - Max: 5.5 V; Supply Voltage - Min: 2.3 V; RTC Memory Size: N/A; Supplier 1 URL: https://www.mouser.com/ProductDetail/Analog-Devices-Maxim-Integrated/DS3231SN?qs=ffX8NcjNb2RmKAb9wAk9Ug%3D%3D; Supplier 2 URL: https://www.digikey.com/en/products/detail/analog-devices-inc-maxim-integrated/DS3231SN/1197576; Supplier 3 URL: https://www.thegioiic.com/ds3231sn-ic-rtc-clock-calendar-16-soic; Value: DS3231SN; Manufacturer Part Number: DS3231SN; Supplier 1: Mouser; Supplier 1 Part Number: 700-DS3231SN-; Supplier 2: Digi-Key; Supplier 2 Part Number: DS3231SN#-ND; Supplier 3: thegioiic; Supplier 3 Part Number: N/A; Mount: SMD/SMT; Operating Temperature Max: + 85 C; Operating Temperature Min: - 40 C; Package / Case: SOIC-16; Packaging: Tape and Reel; ComponentLink1Description: Datasheet; ComponentLink1URL: https://www.analog.com/media/en/technical-documentation/data-sheets/DS3231.pdf; LCSC Part #: N/A
footprint DS3231SN-16SOIC (SOIC, 16-Leads, Body 11.55x7.50mm, Pitch 1.27mm, IPC Medium Density)
pins: 1 32kHz (out), 2 VCC (power), 3 ~{INT}/SQW (out), 4 ~{RST} (in), 5 NC, 6 NC, 7 NC, 8 NC, 9 NC, 10 NC, 11 NC, 12 NC, 13 GND (power), 14 VBAT (power), 15 SDA (in), 16 SCL (in)

## MCP79411-I/SN-8SOIC
designator U?, comment MCP79411-I/SN
IC RTC CLK/CALENDAR I2C 8SOIC; Manufacturer: Microchip Technology; Manufacturer Part Number: W25Q64FVSSIG; RTC Memory Size: 64B, 1Kb; Operating Supply Current: 1 uA; RTC Bus Interface: I2C, Serial; Time Format: HH:MM:SS (12 hr, 24 hr); Supply Voltage - Max: 5.5 V; Supply Voltage - Min: 1.8 V; Supplier 1 URL: https://www.mouser.com/ProductDetail/Microchip-Technology/MCP79411-I-SN?qs=ggQiQSXuoRVyEhJRVDc7Dw%3D%3D; Supplier 2 URL: https://www.digikey.com/en/products/detail/microchip-technology/MCP79411-I-SN/2601461?s=N4IgTCBcDaIKwHYCcBaAsgYQArICwEZ8BJAZQDkQBdAXyA; Supplier 3 URL: N/A; Value: MCP79411-I/SN; Supplier 1: Mouser; Supplier 1 Part Number: 579-MCP79411ISN; Supplier 2: Digi-Key; Supplier 2 Part Number: MCP79411-I/SN-ND; Supplier 3: thegioiic; Supplier 3 Part Number: N/A; Mount: SMD/SMT; Operating Temperature Max: + 85 C; Operating Temperature Min: - 40 C; Package / Case: SOIC-8; Packaging: Tape and Reel; ComponentLink1Description: Datasheet; ComponentLink1URL: https://ww1.microchip.com/downloads/en/DeviceDoc/MCP79410-MCP79411-MCP79412-Battery-Backed%20I2C-RTCC-20002266J.pdf; LCSC Part #: N/A
footprint MCP79411-I/SN-8SOIC (SOIC, 8-Leads, Body 4.90x3.90mm, Pitch 1.27mm, IPC Medium Density)
pins: 1 X1 (in) "Quartz Crystal Input, External Oscillator Input", 2 X2 (out) "Quartz Crystal Output", 3 VBAT (power) "Battery Backup Supply Input", 4 GND (power) "Ground", 5 SDA (in) "Bidirectional Serial Data (I2C)", 6 SCL (in) "Serial Clock (I2C)", 7 MFP (io) "Multifunction Pin", 8 VCC (power) "Primary Power Supply"


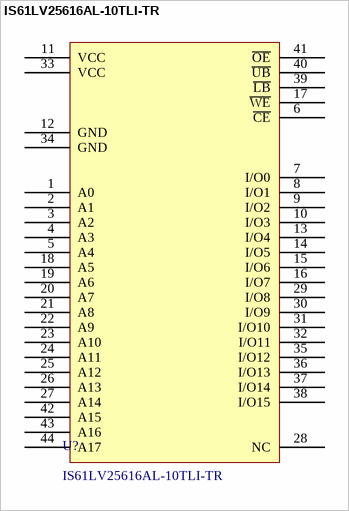
[diagram p9: symbol IS61LV25616AL-10TLI-TR]

## IS61LV25616AL-10TLI-TR
designator U?
256K x 16 HIGH SPEED ASYNCHRONOUS CMOS STATIC RAM WITH 3.3V SUPPLY; Manufacturer: ISSI; Active Read Current - Max: Active; Interface Type: Parallel; Maximum Clock Frequency: 100 MHz; Memory Size: 4 Mbit; Supply Voltage - Max: 3.6 V; Supply Voltage - Min: 3.1 V; Supplier 1 URL: https://www.mouser.vn/ProductDetail/ISSI/IS61LV25616AL-10TLI-TR?qs=YdQ7Kj7W0bwd5Hs%252BZkTrDw%3D%3D; Supplier 2 URL: https://www.digikey.com/en/products/detail/gigadevice-semiconductor-hk-limited/GD25Q64CSIGR/9484691?s=N4IgTCBcDaIOIBEwFYCKA2ALAYQMoEk4AlEAXQF8g; Supplier 3 URL: https://www.digikey.com/en/products/detail/issi-integrated-silicon-solution-inc/is61lv25616al-10tli-tr/1557305; Value: IS61LV25616AL-10TLI-TR; Manufacturer Part Number: IS61LV25616AL-10TLI-TR; Packaging: Tape and Reel; Supplier 1: Mouser; Supplier 1 Part Number: 87061LV25616AL10TLIT; Supplier 2: Digi-Key; Supplier 2 Part Number: 706-1305-2-ND; Supplier 3: thegioiic; Supplier 3 Part Number: N/A; Mount: SMD/SMT; Operating Temperature Max: + 85 C; Operating Temperature Min: - 40 C; Package / Case: 44-TSOP; ComponentLink1Description: Datasheet; ComponentLink1URL: https://www.mouser.vn/datasheet/2/198/61LV25616AL-258498.pdf
footprint IS61LV25616AL-10TLI-TR (TSOP, 44-Leads, Body 18.41x10.16mm, Pitch 0.80mm, IPC Medium Density)
pins: 1 A0, 2 A1, 3 A2, 4 A3, 5 A4, 6 ~{CE}, 7 I/O0, 8 I/O1, 9 I/O2, 10 I/O3, 11 VCC, 12 GND, 13 I/O4, 14 I/O5, 15 I/O6, 16 I/O7, 17 ~{WE}, 18 A5, 19 A6, 20 A7, 21 A8, 22 A9, 23 A10, 24 A11, 25 A12, 26 A13, 27 A14, 28 NC, 29 I/O8, 30 I/O9, 31 I/O10, 32 I/O11, 33 VCC, 34 GND, 35 I/O12, 36 I/O13, 37 I/O14, 38 I/O15, 39 ~{LB}, 40 ~{UB}, 41 ~{OE}, 42 A15, 43 A16, 44 A17


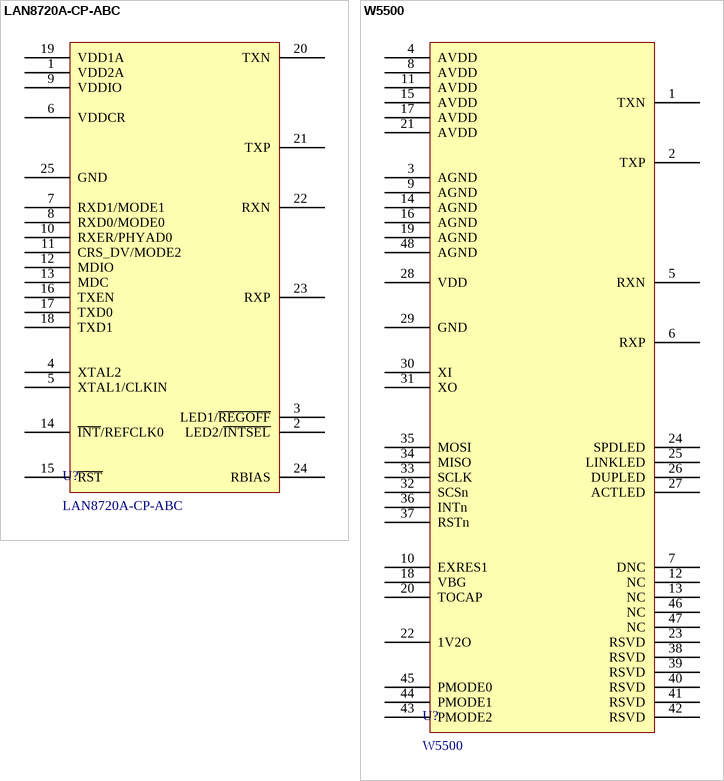
[diagram p10: symbols LAN8720A-CP-ABC to W5500]

## LAN8720A-CP-ABC
designator U?
Ethernet ICs Small Footprint RMII RMII 10/100 Ethernet; Manufacturer: Microchip Technology; Active status: Active; Pad count: 24; Supply Voltage - Max: 3.6 V; Supply Voltage - Min: 1.14 V; Protocol: RMII; Supplier 1 URL: https://www.mouser.com/ProductDetail/Microchip-Technology/LAN8720A-CP-ABC?qs=Gd3Cm49KlLPCUEGQe1b4LA%3D%3D; Supplier 2 URL: https://www.digikey.com/en/products/detail/microchip-technology/LAN8720A-CP-TR-ABC/9168867; Supplier 3 URL: https://www.thegioiic.com/lan8720a-ic-truyen-nhan-ethernet-24-qfn; Value: LAN8720A-CP-ABC; Manufacturer Part Number: LAN8720A-CP-ABC; Packaging: Tape and Reel; Supplier 1: Mouser; Supplier 1 Part Number: 579-LAN8720ACPABC; Supplier 2: Digi-Key; Supplier 2 Part Number: LAN8720A-CP-TR-ABCTR-ND; Supplier 3: thegioiic; Supplier 3 Part Number: N/A; Mount: SMD/SMT; Operating Temperature Max: + 85 C; Operating Temperature Min: - 40 C; Package / Case: SQFN-24; ComponentLink1Description: Datasheet; ComponentLink1URL: https://www.mouser.com/datasheet/2/268/00002165B-977427.pdf
footprint LAN8720A-CP-ABC (QFN, 24-Leads, Body 4.00x4.00mm, Pitch 0.50mm, Thermal Pad 2.50x2.50mm, IPC Medium Density)
pins: 1 VDD2A, 2 LED2/~{INTSEL}, 3 LED1/~{REGOFF}, 4 XTAL2, 5 XTAL1/CLKIN, 6 VDDCR, 7 RXD1/MODE1, 8 RXD0/MODE0, 9 VDDIO, 10 RXER/PHYAD0, 11 CRS_DV/MODE2, 12 MDIO, 13 MDC, 14 ~{INT}/REFCLK0, 15 ~{RST}, 16 TXEN, 17 TXD0, 18 TXD1, 19 VDD1A, 20 TXN, 21 TXP, 22 RXN, 23 RXP, 24 RBIAS, 25 GND

## W5500
designator U?
Ethernet ICs 3in1 Enet Controller TCP/IP +MAC+PHY; Manufacturer: WIZnet; Pad count: 48; Active status: Active; Protocol: SPI; Supply Voltage - Max: 3.63 V; Supply Voltage - Min: 2.97 V; Supplier 1 URL: https://www.mouser.com/ProductDetail/WIZnet/W5500?qs=2vh%252B45pPFtzthUpYPd4pqA%3D%3D; Supplier 2 URL: https://www.digikey.com/en/products/detail/wiznet/w5500/4425702; Supplier 3 URL: N/A; Value: W5500; Manufacturer Part Number: W5500; Packaging: Tape and Reel; Supplier 1: Mouser; Supplier 1 Part Number: 950-W5500; Supplier 2: Digi-Key; Supplier 2 Part Number: 1278-W5500CT-ND; Supplier 3: thegioiic; Supplier 3 Part Number: N/A; Mount: SMD/SMT; Operating Temperature Max: + 85 C; Operating Temperature Min: - 40 C; Package / Case: LQFP-48; ComponentLink1Description: Datasheet; ComponentLink1URL: https://www.mouser.com/datasheet/2/443/Wiznet_W5500_DS_1%200%205-1212109.pdf
footprint W5500 (TSQFP, 48-Leads, Body 7.00x7.00mm, Pitch 0.50mm, IPC Medium Density)
pins: 1 TXN, 2 TXP, 3 AGND, 4 AVDD, 5 RXN, 6 RXP, 7 DNC, 8 AVDD, 9 AGND, 10 EXRES1, 11 AVDD, 12 NC, 13 NC, 14 AGND, 15 AVDD, 16 AGND, 17 AVDD, 18 VBG, 19 AGND, 20 TOCAP, 21 AVDD, 22 1V2O, 23 RSVD, 24 SPDLED, 25 LINKLED, 26 DUPLED, 27 ACTLED, 28 VDD, 29 GND, 30 XI, 31 XO, 32 SCSn, 33 SCLK, 34 MISO, 35 MOSI, 36 INTn, 37 RSTn, 38 RSVD, 39 RSVD, 40 RSVD, 41 RSVD, 42 RSVD, 43 PMODE2, 44 PMODE1, 45 PMODE0, 46 NC, 47 NC, 48 AGND


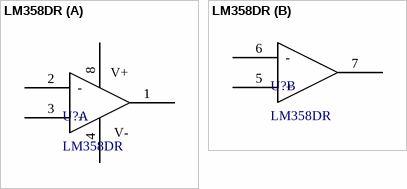
[diagram p11: symbol LM358DR]

## LM358DR
designator U?
Operational Amplifiers - Op Amps Dual Op Amp; Manufacturer: Texas Instruments; Active Read Current - Max: Active; CMRR - Common Mode Rejection Ratio: 80 dB; Dual Supply Voltage: +/- 3 V, +/- 5 V, +/- 9 V; GBP - Gain Bandwidth Product: 700 kHz; Ib - Input Bias Current: 250 nA; Number of Channels: 2 Channel; Operating Supply Current: 350 uA; Output Current per Channel: 20 mA; SR - Slew Rate: 300 mV/us; Supply Voltage - Max: 32 V; Supply Voltage - Min: 3 V; Voltage Gain dB: 100 dB; Vos - Input Offset Voltage: 7 mV; Supplier 1 URL: https://www.mouser.com/ProductDetail/Texas-Instruments/LM358DR?qs=Zu35EjizYSSY6pJ37yjmHA%3D%3D; Supplier 2 URL: N/A; Supplier 3 URL: N/A; Value: LM358DR; Manufacturer Part Number: LM358DR; Supplier 1: Mouser; Supplier 1 Part Number: 595-LM358DR; Supplier 2: Digi-Key; Supplier 2 Part Number: N/A; Supplier 3: thegioiic; Supplier 3 Part Number: N/A; Mount: SMD/SMT; Operating Temperature Max: + 85 C; Operating Temperature Min: - 40 C; Package / Case: SOIC-8; Packaging: Tape and Reel; ComponentLink1Description: Datasheet; ComponentLink1URL: https://www.ti.com/general/docs/suppproductinfo.tsp?distId=26&gotoUrl=https://www.ti.com/lit/gpn/lm358; LCSC Part #: C5423
footprint LM358DR (SOIC, 8-Leads, Body 4.90x3.90mm, Pitch 1.27mm, IPC Medium Density)
part A pins: 1 OUT 1, 2 -, 3 +, 4 GND, 8 VCC
part B pins: 5 +, 6 -, 7 OUT 1
part A text: V+; V-


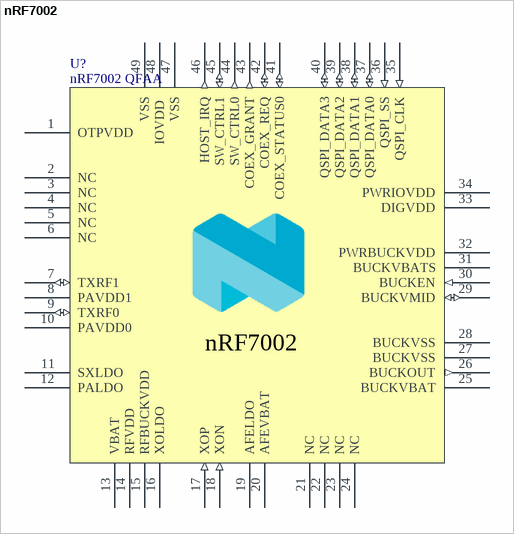
[diagram p12: symbol nRF7002]

## nRF7002
designator U?, comment nRF7002 QFAA
Wifi Dual Band Companion chip; Manufacturer: Nordic Semiconductor; Manufacturer Part Number: nRF7002-QFAAAA; Pad Count: 49; Supply Voltage - Max: 3.3 V; Supply Voltage - Min: 1.8 V; Component Class: nRF_Devices; Author: hany; Published: 2021-09-16; Value: nRF7002 QFAA; Supplier 1 URL: https://www.mouser.sg/c/?q=NRF7002-QFAA-R; Supplier 2 URL: N/A; Supplier 3 URL: N/A; Supplier 1: Mouser; Supplier 1 Part Number: nRF7002; Supplier 2: Digi-Key; Supplier 2 Part Number: N/A; Supplier 3: thegioiic; Supplier 3 Part Number: N/A; Mount: SMD/SMT; Operating Temperature Max: + 85 C; Operating Temperature Min: - 40 C; Package / Case: QFN-48; ComponentLink1Description: Datasheet; ComponentLink1URL: https://www.mouser.sg/datasheet/2/297/Nordic_Semiconductor_1_6_2023_nRF7002_IC_Product_B-3084788.pdf; Packaging: Tape and Reel
footprint nRF7002 (QFN40P600X600X60-48N)
pins: 1 OTPVDD (power) "OTP write mode supply,  (2.25-2.75V)", 2 NC, 3 NC, 4 NC, 5 NC, 6 NC, 7 TXRF1 (io) "RF INOUT ,", 8 PAVDD1 (power) "Supply ,  (3.3V)", 9 TXRF0 (io) "RF INOUT ,", 10 PAVDD0 (power) "Supply ,  (3.3V)", 11 SXLDO (power) "Supply ,  (1.2V)", 12 PALDO (power) "Supply ,  (3.3V)", 13 VBAT (power) "Supply ,  (2.5-4.5V)", 14 RFVDD (power) "Supply ,  (1.8V)", 15 RFBUCKVDD (power) "Supply ,  (1.5V)", 16 XOLDO (power) "Supply ,  (1.2V)", 17 XOP (in) "40MHz crystal ,", 18 XON (in) "40MHz crystal ,", 19 AFELDO (power) "Supply ,  (1.8V)", 20 AFEVBAT (power) "Supply ,  (2.5-4.5V)", 21 NC, 22 NC, 23 NC, 24 NC, 25 BUCKVBAT (power) "Supply ,  (2.5-4.5V)", 26 BUCKOUT (out) "DCDC output", 27 BUCKVSS (power) "DCDC GND", 28 BUCKVSS (power) "DCDC GND", 29 BUCKVMID (io) "Voltage reference decoupling pin ,", 30 BUCKEN (in) "PWR IP enable pin ,", 31 BUCKVBATS (power) "Supply ,  (2.5-4.5V)", 32 PWRBUCKVDD (power) "Supply ,  (1.5V)", 33 DIGVDD (power) "Supply ,  (1.1V)", 34 PWRIOVDD (power) "internal IO supply, may be used for OTP read,  (1.8-3.3 V)", 35 QSPI_CLK (in) "QSPI Clock", 36 QSPI_SS (in) "QSPI  Slave select", 37 QSPI_DATA0 (io) "QSPI data 0/MOSI", 38 QSPI_DATA1 (io) "QSPI data 1/MISO", 39 QSPI_DATA2 (io) "QSPI data 2/NC", 40 QSPI_DATA3 (io) "QSPI data 3/NC", 41 COEX_STATUS0 (io) "Coex interface, DIGMON1 (O) / GPIO1 (O)", 42 COEX_REQ (io) "Coex interface, DIGMON0 (O) / GPIO0 (O)", 43 COEX_GRANT (out) "Coex interface, GPIO2 (O)", 44 SW_CTRL0 (out) "external switch control , GPIO3 (O)", 45 SW_CTRL1 (io) "external switch control , GPIO4 (O) / BT_COEX_STATUS1 (I)", 46 HOST_IRQ (out) "Host processor interrupt request , GPIO5 (O)", 47 VSS "Connect to GND", 48 IOVDD  (power) "IO supply ,  (1.8-3.3 V)", 49 VSS (power) "Center Pad"


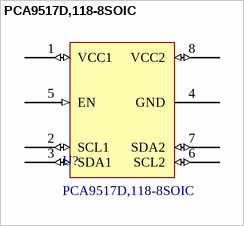
[diagram p13: symbol PCA9517D,118-8SOIC]